# Altium integrated library Big_Library_Charge_Pump.IntLib: 1 symbol
Pins are listed as number, name and electrical type; pins without a type are passive.

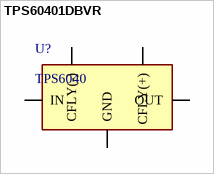
[diagram p0: symbol TPS60401DBVR]

## TPS60401DBVR
designator U?, comment TPS6040
60mA Charge Pump Voltage Inverter with Fixed 20kHz Operation 5-SOT-23 -40 to 85; Manufacturer Part Number: TPS60401DBVR; Min Supply Voltage: 1.8V; Max Supply Voltage: 5.25V; Output Voltage: -5.25V; Min Output Voltage: -1.6V; Quiescent Current: 65uA; Supply Current: 70uA; Category: Voltage Regulators - Switching; Case/Package: SOT-23-5; Output Current: 60mA; Max Output current: 60mA; Min Input Voltage: 1.8V; Switching Frequency: 20kHz; Max Output Voltage: -5.25V; ComponentLink4Description: Link; ComponentLink4URL: https://ozdisan.com/integrated-circuits-ics/power-management-ics/dc-dc-switching-voltage-regulators/TPS60401DBVR/509196
footprint DBV0005A_L (SOT23, 5-Leads, Body 3.05x1.75mm, Pitch 0.95mm, IPC High Density)
footprint DBV0005A_M (SOT23, 5-Leads, Body 3.05x1.75mm, Pitch 0.95mm, IPC Low Density)
footprint DBV0005A_N (SOT23, 5-Leads, Body 3.05x1.75mm, Pitch 0.95mm, IPC Medium Density)
pins: 1 OUT, 2 IN, 3 CFLY(-), 4 GND, 5 CFLY(+)